# Altium footprint library MOLEX_678038020.PcbLib: 1 footprints
Each footprint in its own frame and in the unit in brackets; x right, y up, seen from the top. Pads: shape width x height; smd on the part's side, far side on the other; paste and mask are expansions set on the pad; w line width, h text height; cw(c..) or ccw(c..) is an arc to the next point about the centre after c.
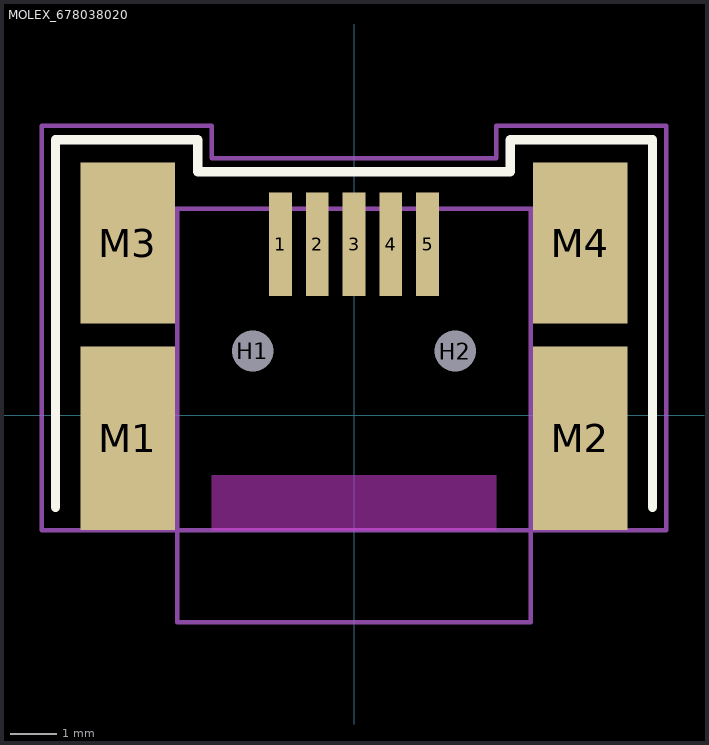
[diagram p0: the footprint, top view; thin cyan lines are the x and y axes]

## MOLEX_678038020 [mm]
pads (11):
  rect 0.5x2.25 smd: 1(-1.6,3.725) 2(-0.8,3.725) 3(0,3.725) 4(0.8,3.725) 5(1.6,3.725)
  round 0.8 hole 0.9 unplated paste+0 mask+0.15: H1(-2.2,1.4) H2(2.2,1.4)
  rect 2.05x4 smd: M1(-4.925,-0.5) M2(4.925,-0.5)
  rect 2.05x3.5 smd: M3(-4.925,3.75) M4(4.925,3.75)
Top Overlay:
  lines w0.2: -6.5,-2 -6.5,6 -3.4,6 -3.4,5.3 3.4,5.3 3.4,6 6.5,6 6.5,-2
Keep-Out Layer:
  region: -3.1,-2.5 -3.1,-1.3 3.1,-1.3 3.1,-2.5
Mechanical 13:
  lines w0.1: -3.85,-2.5 -5,-2.5 -5,-0.5 -3.85,-0.5 ; -3.85,3 -5,3 -5,4.5 -3.85,4.5 ; 3.85,-2.5 5,-2.5 5,-0.5 3.85,-0.5 ; 3.85,3 5,3 5,4.5 3.85,4.5 ; -3.85,4.5 -3.85,-4.5 3.85,-4.5 3.85,4.5 ; -3.85,4.5 3.85,4.5
Mechanical 15:
  lines w0.1: -6.8,-2.5 6.8,-2.5 6.8,6.3 3.1,6.3 3.1,5.6 -3.1,5.6 -3.1,6.3 -6.8,6.3 -6.8,-2.5
3D body: height 4, standoff -0.95, extent -4.95,-4.52 4.95,4.48